# EAGLE library part ST2349A (library rgb_cube)
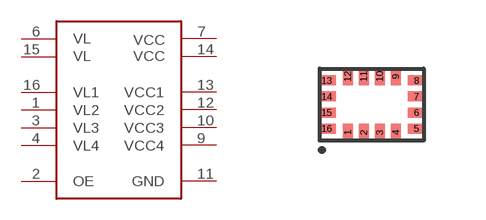
[diagram p17: symbol with the pads of QFN16; footprint QFN16]

Designator prefix -

## ST2349A  [QFN16]
1  VL2
2  OE  in
3  VL3
4  VL4
5  NC1  nc
6  VL_PIN6  sup
7  VCC_PIN7  sup
8  NC2  nc
9  VCC4
10  VCC3
11  GND
12  VCC2
13  VCC1
14  VCC_PIN14  sup
15  VL_PIN15  sup
16  VL1

## Footprint QFN16 (pad centres in mm)
smd 0.25 x 0.45: 1 -0.6,-0.7; 2 -0.2,-0.7; 3 0.2,-0.7; 4 0.6,-0.7; 9 0.6,0.7; 10 0.2,0.7; 11 -0.2,0.7; 12 -0.6,0.7
smd 0.45 x 0.25: 5 1.125,-0.6; 6 1.125,-0.2; 7 1.125,0.2; 8 1.125,0.6; 13 -1.125,0.6; 14 -1.125,0.2; 15 -1.125,-0.2; 16 -1.125,-0.6